# Altium integrated library TI Data Converters Digital to Analog Converter.IntLib: 1533 symbols (part 28 of 99)
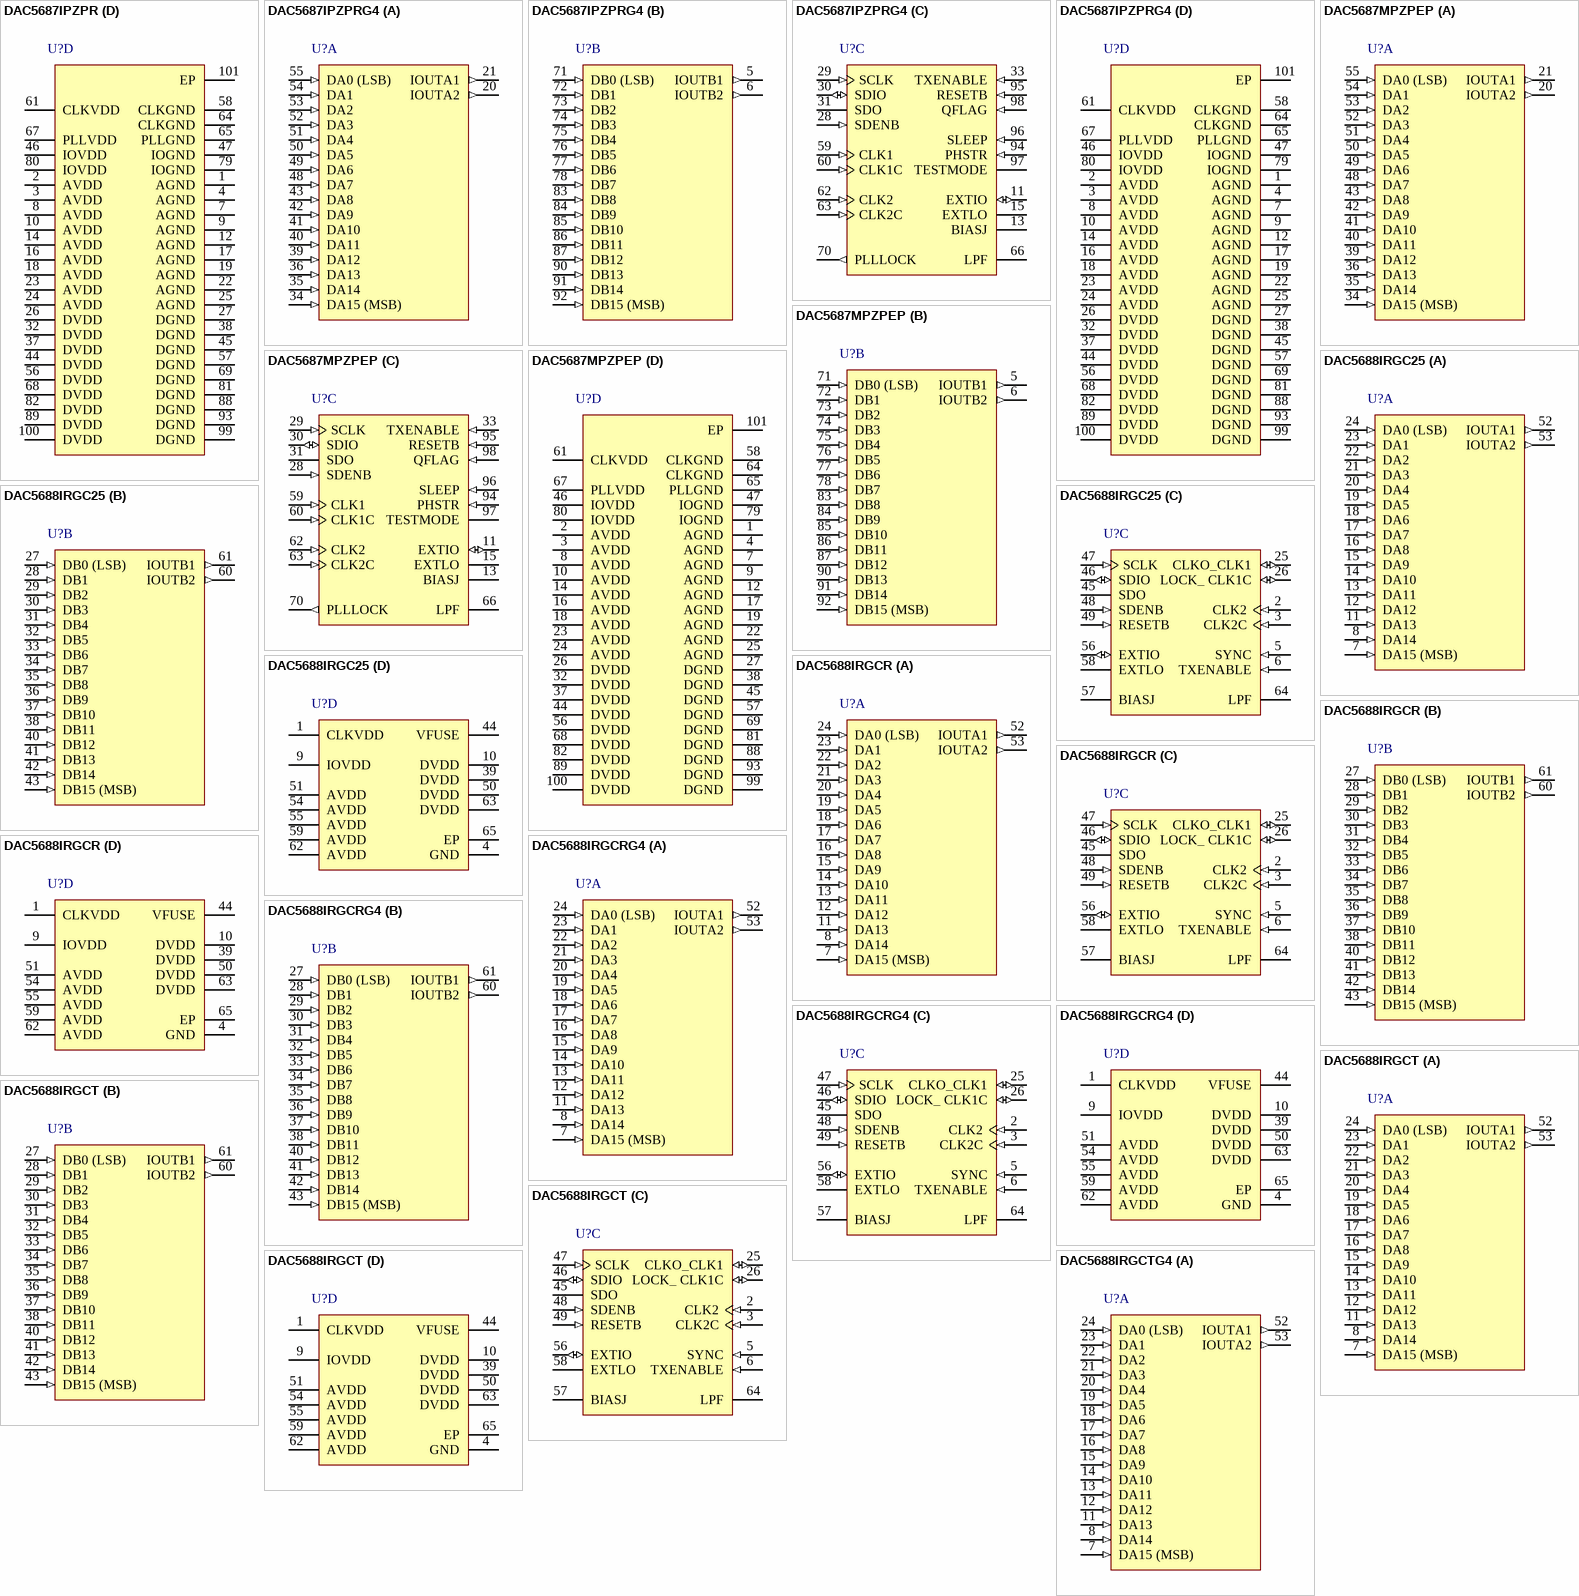
[diagram p100: symbols DAC5687IPZPR to DAC5688IRGCTG4]

## DAC5688IRGC25
designator U?
16-Bit, 800 MSPS 2 x - 8 x Interpolating Dual-Channel DAC with Integrated PLL, -40 to 85 degC, 64-pin QFN (RGC64), Green (RoHS & no Sb/Br); Manufacturer: Texas Instruments; PartNumber: DAC5688IRGC25; DAC Channels: 2; Interface: Parallel CMOS; Power Consumption(Typ)(mW): 1750; Resolution(Bits): 16; Settling Time(us): 0.0104; SFDR(dB): 83; SNR(dB): 72; SubFamily: High Speed DAC (>10MSPS); DatasheetVersion: SLLS880C; PackageVersion: 4204106/F, 11/2011; PackageReference: RGC64-7400X7400TP; PackageDescription: 64-Pin Plastic Quad Flatpack No-Lead, Body 9 x 9 mm, Pitch 0.5 mm; Supplier 1: Digi-Key; Supplier Part Number 1: DAC5688IRGC25-ND; Supplier 2: Newark; Supplier Part Number 2: 63R9879; Supplier 3: Mouser; Supplier Part Number 3: 595-DAC5688IRGC25; Eco-Plan: Green (RoHS & no Sb/Br); Mounting Technology: Surface Mount; ComponentLink1Description: Manufacturer URL; ComponentLink1URL: http://www.ti.com/; ComponentLink2Description: Datasheet; ComponentLink2URL: http://www.ti.com/general/docs/lit/getliterature.tsp?genericPartNumber=DAC5688&fileType=pdf; ComponentLink3Description: Package Specification; ComponentLink3URL: http://www.ti.com/litv/pdf/mpqf125e
footprint TI-RGC64-7400X7400TP_V (QFN, 64-Leads, Body 9x9mm, Pitch 0.5mm, Thermal Pad 7.4x7.4mm, TI Recommended)
part A pins: 7 DA15 (MSB) (in) "A-Channel Data Bits 0 through 15. DA15 is most significant data bit (MSB) - pin 7  DA0 is least significant data bit (LSB) - pin 24 Internal pull-down. The order of bus can be reversed via CONFIG4 reva bit.", 8 DA14 (in) "A-Channel Data Bits 0 through 15. DA15 is most significant data bit (MSB) - pin 7  DA0 is least significant data bit (LSB) - pin 24 Internal pull-down. The order of bus can be reversed via CONFIG4 reva bit.", 11 DA13 (in) "A-Channel Data Bits 0 through 15. DA15 is most significant data bit (MSB) - pin 7  DA0 is least significant data bit (LSB) - pin 24 Internal pull-down. The order of bus can be reversed via CONFIG4 reva bit.", 12 DA12 (in) "A-Channel Data Bits 0 through 15. DA15 is most significant data bit (MSB) - pin 7  DA0 is least significant data bit (LSB) - pin 24 Internal pull-down. The order of bus can be reversed via CONFIG4 reva bit.", 13 DA11 (in) "A-Channel Data Bits 0 through 15. DA15 is most significant data bit (MSB) - pin 7  DA0 is least significant data bit (LSB) - pin 24 Internal pull-down. The order of bus can be reversed via CONFIG4 reva bit.", 14 DA10 (in) "A-Channel Data Bits 0 through 15. DA15 is most significant data bit (MSB) - pin 7  DA0 is least significant data bit (LSB) - pin 24 Internal pull-down. The order of bus can be reversed via CONFIG4 reva bit.", 15 DA9 (in) "A-Channel Data Bits 0 through 15. DA15 is most significant data bit (MSB) - pin 7  DA0 is least significant data bit (LSB) - pin 24 Internal pull-down. The order of bus can be reversed via CONFIG4 reva bit.", 16 DA8 (in) "A-Channel Data Bits 0 through 15. DA15 is most significant data bit (MSB) - pin 7  DA0 is least significant data bit (LSB) - pin 24 Internal pull-down. The order of bus can be reversed via CONFIG4 reva bit.", 17 DA7 (in) "A-Channel Data Bits 0 through 15. DA15 is most significant data bit (MSB) - pin 7  DA0 is least significant data bit (LSB) - pin 24 Internal pull-down. The order of bus can be reversed via CONFIG4 reva bit.", 18 DA6 (in) "A-Channel Data Bits 0 through 15. DA15 is most significant data bit (MSB) - pin 7  DA0 is least significant data bit (LSB) - pin 24 Internal pull-down. The order of bus can be reversed via CONFIG4 reva bit.", 19 DA5 (in) "A-Channel Data Bits 0 through 15. DA15 is most significant data bit (MSB) - pin 7  DA0 is least significant data bit (LSB) - pin 24 Internal pull-down. The order of bus can be reversed via CONFIG4 reva bit.", 20 DA4 (in) "A-Channel Data Bits 0 through 15. DA15 is most significant data bit (MSB) - pin 7  DA0 is least significant data bit (LSB) - pin 24 Internal pull-down. The order of bus can be reversed via CONFIG4 reva bit.", 21 DA3 (in) "A-Channel Data Bits 0 through 15. DA15 is most significant data bit (MSB) - pin 7  DA0 is least significant data bit (LSB) - pin 24 Internal pull-down. The order of bus can be reversed via CONFIG4 reva bit.", 22 DA2 (in) "A-Channel Data Bits 0 through 15. DA15 is most significant data bit (MSB) - pin 7  DA0 is least significant data bit (LSB) - pin 24 Internal pull-down. The order of bus can be reversed via CONFIG4 reva bit.", 23 DA1 (in) "A-Channel Data Bits 0 through 15. DA15 is most significant data bit (MSB) - pin 7  DA0 is least significant data bit (LSB) - pin 24 Internal pull-down. The order of bus can be reversed via CONFIG4 reva bit.", 24 DA0 (LSB) (in) "A-Channel Data Bits 0 through 15. DA15 is most significant data bit (MSB) - pin 7  DA0 is least significant data bit (LSB) - pin 24 Internal pull-down. The order of bus can be reversed via CONFIG4 reva bit.", 52 IOUTA1 (out) "A-Channel DAC current output. An offset binary data pattern of 0x0000 at the DAC input results in a full scale current sink and the least positive voltage on the IOUTA1 pin. Similarly, a 0xFFFF data input results in a 0 mA (See Datasheet)", 53 IOUTA2 (out) "A-Channel DAC complementary current output. The IOUTA2 has the opposite behavior of the IOUTA1 described above. An input data value of 0x0000 results in a 0mA sink and the most positive. voltage on the IOUTA2 pin."
part B pins: 27 DB0 (LSB) (in) "B-Channel Data Bits 0 through 15  DB15 is most significant data bit (MSB) - pin 43 DB0 is least significant data bit (LSB) - pin 27 Internal pull-down. The order of bus can be reversed via CONFIG4 revb bit.", 28 DB1 (in) "B-Channel Data Bits 0 through 15  DB15 is most significant data bit (MSB) - pin 43 DB0 is least significant data bit (LSB) - pin 27 Internal pull-down. The order of bus can be reversed via CONFIG4 revb bit.", 29 DB2 (in) "B-Channel Data Bits 0 through 15  DB15 is most significant data bit (MSB) - pin 43 DB0 is least significant data bit (LSB) - pin 27 Internal pull-down. The order of bus can be reversed via CONFIG4 revb bit.", 30 DB3 (in) "B-Channel Data Bits 0 through 15  DB15 is most significant data bit (MSB) - pin 43 DB0 is least significant data bit (LSB) - pin 27 Internal pull-down. The order of bus can be reversed via CONFIG4 revb bit.", 31 DB4 (in) "B-Channel Data Bits 0 through 15  DB15 is most significant data bit (MSB) - pin 43 DB0 is least significant data bit (LSB) - pin 27 Internal pull-down. The order of bus can be reversed via CONFIG4 revb bit.", 32 DB5 (in) "B-Channel Data Bits 0 through 15  DB15 is most significant data bit (MSB) - pin 43 DB0 is least significant data bit (LSB) - pin 27 Internal pull-down. The order of bus can be reversed via CONFIG4 revb bit.", 33 DB6 (in) "B-Channel Data Bits 0 through 15  DB15 is most significant data bit (MSB) - pin 43 DB0 is least significant data bit (LSB) - pin 27 Internal pull-down. The order of bus can be reversed via CONFIG4 revb bit.", 34 DB7 (in) "B-Channel Data Bits 0 through 15  DB15 is most significant data bit (MSB) - pin 43 DB0 is least significant data bit (LSB) - pin 27 Internal pull-down. The order of bus can be reversed via CONFIG4 revb bit.", 35 DB8 (in) "B-Channel Data Bits 0 through 15  DB15 is most significant data bit (MSB) - pin 43 DB0 is least significant data bit (LSB) - pin 27 Internal pull-down. The order of bus can be reversed via CONFIG4 revb bit.", 36 DB9 (in) "B-Channel Data Bits 0 through 15  DB15 is most significant data bit (MSB) - pin 43 DB0 is least significant data bit (LSB) - pin 27 Internal pull-down. The order of bus can be reversed via CONFIG4 revb bit.", 37 DB10 (in) "B-Channel Data Bits 0 through 15  DB15 is most significant data bit (MSB) - pin 43 DB0 is least significant data bit (LSB) - pin 27 Internal pull-down. The order of bus can be reversed via CONFIG4 revb bit.", 38 DB11 (in) "B-Channel Data Bits 0 through 15  DB15 is most significant data bit (MSB) - pin 43 DB0 is least significant data bit (LSB) - pin 27 Internal pull-down. The order of bus can be reversed via CONFIG4 revb bit.", 40 DB12 (in) "B-Channel Data Bits 0 through 15  DB15 is most significant data bit (MSB) - pin 43 DB0 is least significant data bit (LSB) - pin 27 Internal pull-down. The order of bus can be reversed via CONFIG4 revb bit.", 41 DB13 (in) "B-Channel Data Bits 0 through 15  DB15 is most significant data bit (MSB) - pin 43 DB0 is least significant data bit (LSB) - pin 27 Internal pull-down. The order of bus can be reversed via CONFIG4 revb bit.", 42 DB14 (in) "B-Channel Data Bits 0 through 15  DB15 is most significant data bit (MSB) - pin 43 DB0 is least significant data bit (LSB) - pin 27 Internal pull-down. The order of bus can be reversed via CONFIG4 revb bit.", 43 DB15 (MSB) (in) "B-Channel Data Bits 0 through 15  DB15 is most significant data bit (MSB) - pin 43 DB0 is least significant data bit (LSB) - pin 27 Internal pull-down. The order of bus can be reversed via CONFIG4 revb bit.", 60 IOUTB2 (out) "B-Channel DAC complementary current output. Refer to IOUTA2 description above.", 61 IOUTB1 (out) "B-Channel DAC current output. Refer to IOUTA1 description above."
part C pins: 2 CLK2 (in) "With the clock multiplier PLL enabled, CLK2 provides lower frequency reference clock. If the PLL is disabled, CLK2 directly provides clock for DAC up to 800 MHz.", 3 CLK2C (in) "Complementary CLK2 input.", 5 SYNC (in) "Optional SYNC input for internal clock dividers, FIFO, NCO and QMC blocks. Internal pull-down.", 6 TXENABLE (in) "Transmit enable input. Internal pull-down. TXENABLE has two purposes. In all modes, TXENABLE must be high for the DATA to the DAC to be enabled. When TXENABLE is low, the digital logic section is forced to all 0, and any (See Datasheet)", 25 CLKO_CLK1 (io) "In Dual Clock Modes, provides lower frequency input clock (CLK1). Optionally provides clock (CLKO) output for data bus. Internal pull-down.", 26 LOCK_ CLK1C (io) "Complementary CLK1 signal if configured as a differential input. In PLL mode, optionally outputs PLL lock status. Internal pull-down.", 45 SDO (hiz) "Uni-directional serial interface data in 4-pin mode (CONFIG5 sif4). The SDO pin is 3-stated in 3-pin interface mode (default). Internal pull-down.", 46 SDIO (io) "Bi-directional serial data in 3-pin mode (default). In 4-pin interface mode (CONFIG5 sif4), the SDIO pin is an input only. Internal pull-down.", 47 SCLK (in) "Serial interface clock. Internal pull-down.", 48 SDENB (in) "Active low serial data enable, always an input to the DAC5688. Internal pull-up.", 49 RESETB (in) "Resets the chip when low. Internal pull-up.", 56 EXTIO (io) "Used as external reference input when internal reference is disabled (i.e., EXTLO connected to AVDD). Used as internal reference output when EXTLO = GND, requires a 0.1uF decoupling capacitor to GND when used as reference (See Datasheet)", 57 BIASJ "Full-scale output current bias. For 20mA full-scale output current, connect a 960 ohm resistor to GND.", 58 EXTLO "Connect to GND for internal reference, or AVDD for external reference.", 64 LPF "PLL loop filter connection. If not using the clock multiplying PLL, leave the LPF pin open. Set PLL_sleep and clear PLL_ena control bits for reduced power dissipation."
part D pins: 1 CLKVDD (power) "Internal clock buffer supply voltage. (1.8V) It is recommended to isolate this supply from DVDD.", 4 GND (power) "Pin 4 and the Thermal Pad located on the bottom of the QFN package is ground for AVDD, DVDD and IOVDD supplies.", 9 IOVDD (power) "3.3V supply voltage for all digital I/O. Note: This supply input should remain at 3.3V regardless of the 1.8V or 3.3V selectable digital input switching thresholds via CONFIG26 io_1p8_3p3.", 10 DVDD (power) "Digital supply voltage. (1.8V) For best performance it is recommended to isolate pins 10 and 39 from all other 1.8V supplies.", 39 DVDD (power) "Digital supply voltage. (1.8V) For best performance it is recommended to isolate pins 10 and 39 from all other 1.8V supplies.", 44 VFUSE (power) "Digital supply voltage. (1.8V) This supply pin is also used for factory fuse programming. Connect to DVDD pins for normal operation.", 50 DVDD (power) "Digital supply voltage. (1.8V) For best performance it is recommended to isolate pins 10 and 39 from all other 1.8V supplies.", 51 AVDD (power) "Analog supply voltage. (3.3V)", 54 AVDD (power) "Analog supply voltage. (3.3V)", 55 AVDD (power) "Analog supply voltage. (3.3V)", 59 AVDD (power) "Analog supply voltage. (3.3V)", 62 AVDD (power) "Analog supply voltage. (3.3V)", 63 DVDD (power) "Digital supply voltage. (1.8V) For best performance it is recommended to isolate pins 10 and 39 from all other 1.8V supplies.", 65 EP (power) "Pin 4 and the Thermal Pad located on the bottom of the QFN package is ground for AVDD, DVDD and IOVDD supplies."

## DAC5688IRGCR
designator U?
16-Bit, 800 MSPS 2 x - 8 x Interpolating Dual-Channel DAC with Integrated PLL, -40 to 85 degC, 64-pin QFN (RGC64), Green (RoHS & no Sb/Br); Manufacturer: Texas Instruments; PartNumber: DAC5688IRGCR; DAC Channels: 2; Interface: Parallel CMOS; Power Consumption(Typ)(mW): 1750; Resolution(Bits): 16; Settling Time(us): 0.0104; SFDR(dB): 83; SNR(dB): 72; SubFamily: High Speed DAC (>10MSPS); DatasheetVersion: SLLS880C; PackageVersion: 4204106/F, 11/2011; PackageReference: RGC64-7400X7400TP; PackageDescription: 64-Pin Plastic Quad Flatpack No-Lead, Body 9 x 9 mm, Pitch 0.5 mm; Supplier 1: Digi-Key; Supplier Part Number 1: DAC5688IRGCR-ND; Supplier 2: Mouser; Supplier Part Number 2: 595-DAC5688IRGCR; Eco-Plan: Green (RoHS & no Sb/Br); Mounting Technology: Surface Mount; ComponentLink1Description: Manufacturer URL; ComponentLink1URL: http://www.ti.com/; ComponentLink2Description: Datasheet; ComponentLink2URL: http://www.ti.com/general/docs/lit/getliterature.tsp?genericPartNumber=DAC5688&fileType=pdf; ComponentLink3Description: Package Specification; ComponentLink3URL: http://www.ti.com/litv/pdf/mpqf125e
footprint TI-RGC64-7400X7400TP_V (QFN, 64-Leads, Body 9x9mm, Pitch 0.5mm, Thermal Pad 7.4x7.4mm, TI Recommended)
part A pins: 7 DA15 (MSB) (in) "A-Channel Data Bits 0 through 15. DA15 is most significant data bit (MSB) - pin 7  DA0 is least significant data bit (LSB) - pin 24 Internal pull-down. The order of bus can be reversed via CONFIG4 reva bit.", 8 DA14 (in) "A-Channel Data Bits 0 through 15. DA15 is most significant data bit (MSB) - pin 7  DA0 is least significant data bit (LSB) - pin 24 Internal pull-down. The order of bus can be reversed via CONFIG4 reva bit.", 11 DA13 (in) "A-Channel Data Bits 0 through 15. DA15 is most significant data bit (MSB) - pin 7  DA0 is least significant data bit (LSB) - pin 24 Internal pull-down. The order of bus can be reversed via CONFIG4 reva bit.", 12 DA12 (in) "A-Channel Data Bits 0 through 15. DA15 is most significant data bit (MSB) - pin 7  DA0 is least significant data bit (LSB) - pin 24 Internal pull-down. The order of bus can be reversed via CONFIG4 reva bit.", 13 DA11 (in) "A-Channel Data Bits 0 through 15. DA15 is most significant data bit (MSB) - pin 7  DA0 is least significant data bit (LSB) - pin 24 Internal pull-down. The order of bus can be reversed via CONFIG4 reva bit.", 14 DA10 (in) "A-Channel Data Bits 0 through 15. DA15 is most significant data bit (MSB) - pin 7  DA0 is least significant data bit (LSB) - pin 24 Internal pull-down. The order of bus can be reversed via CONFIG4 reva bit.", 15 DA9 (in) "A-Channel Data Bits 0 through 15. DA15 is most significant data bit (MSB) - pin 7  DA0 is least significant data bit (LSB) - pin 24 Internal pull-down. The order of bus can be reversed via CONFIG4 reva bit.", 16 DA8 (in) "A-Channel Data Bits 0 through 15. DA15 is most significant data bit (MSB) - pin 7  DA0 is least significant data bit (LSB) - pin 24 Internal pull-down. The order of bus can be reversed via CONFIG4 reva bit.", 17 DA7 (in) "A-Channel Data Bits 0 through 15. DA15 is most significant data bit (MSB) - pin 7  DA0 is least significant data bit (LSB) - pin 24 Internal pull-down. The order of bus can be reversed via CONFIG4 reva bit.", 18 DA6 (in) "A-Channel Data Bits 0 through 15. DA15 is most significant data bit (MSB) - pin 7  DA0 is least significant data bit (LSB) - pin 24 Internal pull-down. The order of bus can be reversed via CONFIG4 reva bit.", 19 DA5 (in) "A-Channel Data Bits 0 through 15. DA15 is most significant data bit (MSB) - pin 7  DA0 is least significant data bit (LSB) - pin 24 Internal pull-down. The order of bus can be reversed via CONFIG4 reva bit.", 20 DA4 (in) "A-Channel Data Bits 0 through 15. DA15 is most significant data bit (MSB) - pin 7  DA0 is least significant data bit (LSB) - pin 24 Internal pull-down. The order of bus can be reversed via CONFIG4 reva bit.", 21 DA3 (in) "A-Channel Data Bits 0 through 15. DA15 is most significant data bit (MSB) - pin 7  DA0 is least significant data bit (LSB) - pin 24 Internal pull-down. The order of bus can be reversed via CONFIG4 reva bit.", 22 DA2 (in) "A-Channel Data Bits 0 through 15. DA15 is most significant data bit (MSB) - pin 7  DA0 is least significant data bit (LSB) - pin 24 Internal pull-down. The order of bus can be reversed via CONFIG4 reva bit.", 23 DA1 (in) "A-Channel Data Bits 0 through 15. DA15 is most significant data bit (MSB) - pin 7  DA0 is least significant data bit (LSB) - pin 24 Internal pull-down. The order of bus can be reversed via CONFIG4 reva bit.", 24 DA0 (LSB) (in) "A-Channel Data Bits 0 through 15. DA15 is most significant data bit (MSB) - pin 7  DA0 is least significant data bit (LSB) - pin 24 Internal pull-down. The order of bus can be reversed via CONFIG4 reva bit.", 52 IOUTA1 (out) "A-Channel DAC current output. An offset binary data pattern of 0x0000 at the DAC input results in a full scale current sink and the least positive voltage on the IOUTA1 pin. Similarly, a 0xFFFF data input results in a 0 mA (See Datasheet)", 53 IOUTA2 (out) "A-Channel DAC complementary current output. The IOUTA2 has the opposite behavior of the IOUTA1 described above. An input data value of 0x0000 results in a 0mA sink and the most positive. voltage on the IOUTA2 pin."
part B pins: 27 DB0 (LSB) (in) "B-Channel Data Bits 0 through 15  DB15 is most significant data bit (MSB) - pin 43 DB0 is least significant data bit (LSB) - pin 27 Internal pull-down. The order of bus can be reversed via CONFIG4 revb bit.", 28 DB1 (in) "B-Channel Data Bits 0 through 15  DB15 is most significant data bit (MSB) - pin 43 DB0 is least significant data bit (LSB) - pin 27 Internal pull-down. The order of bus can be reversed via CONFIG4 revb bit.", 29 DB2 (in) "B-Channel Data Bits 0 through 15  DB15 is most significant data bit (MSB) - pin 43 DB0 is least significant data bit (LSB) - pin 27 Internal pull-down. The order of bus can be reversed via CONFIG4 revb bit.", 30 DB3 (in) "B-Channel Data Bits 0 through 15  DB15 is most significant data bit (MSB) - pin 43 DB0 is least significant data bit (LSB) - pin 27 Internal pull-down. The order of bus can be reversed via CONFIG4 revb bit.", 31 DB4 (in) "B-Channel Data Bits 0 through 15  DB15 is most significant data bit (MSB) - pin 43 DB0 is least significant data bit (LSB) - pin 27 Internal pull-down. The order of bus can be reversed via CONFIG4 revb bit.", 32 DB5 (in) "B-Channel Data Bits 0 through 15  DB15 is most significant data bit (MSB) - pin 43 DB0 is least significant data bit (LSB) - pin 27 Internal pull-down. The order of bus can be reversed via CONFIG4 revb bit.", 33 DB6 (in) "B-Channel Data Bits 0 through 15  DB15 is most significant data bit (MSB) - pin 43 DB0 is least significant data bit (LSB) - pin 27 Internal pull-down. The order of bus can be reversed via CONFIG4 revb bit.", 34 DB7 (in) "B-Channel Data Bits 0 through 15  DB15 is most significant data bit (MSB) - pin 43 DB0 is least significant data bit (LSB) - pin 27 Internal pull-down. The order of bus can be reversed via CONFIG4 revb bit.", 35 DB8 (in) "B-Channel Data Bits 0 through 15  DB15 is most significant data bit (MSB) - pin 43 DB0 is least significant data bit (LSB) - pin 27 Internal pull-down. The order of bus can be reversed via CONFIG4 revb bit.", 36 DB9 (in) "B-Channel Data Bits 0 through 15  DB15 is most significant data bit (MSB) - pin 43 DB0 is least significant data bit (LSB) - pin 27 Internal pull-down. The order of bus can be reversed via CONFIG4 revb bit.", 37 DB10 (in) "B-Channel Data Bits 0 through 15  DB15 is most significant data bit (MSB) - pin 43 DB0 is least significant data bit (LSB) - pin 27 Internal pull-down. The order of bus can be reversed via CONFIG4 revb bit.", 38 DB11 (in) "B-Channel Data Bits 0 through 15  DB15 is most significant data bit (MSB) - pin 43 DB0 is least significant data bit (LSB) - pin 27 Internal pull-down. The order of bus can be reversed via CONFIG4 revb bit.", 40 DB12 (in) "B-Channel Data Bits 0 through 15  DB15 is most significant data bit (MSB) - pin 43 DB0 is least significant data bit (LSB) - pin 27 Internal pull-down. The order of bus can be reversed via CONFIG4 revb bit.", 41 DB13 (in) "B-Channel Data Bits 0 through 15  DB15 is most significant data bit (MSB) - pin 43 DB0 is least significant data bit (LSB) - pin 27 Internal pull-down. The order of bus can be reversed via CONFIG4 revb bit.", 42 DB14 (in) "B-Channel Data Bits 0 through 15  DB15 is most significant data bit (MSB) - pin 43 DB0 is least significant data bit (LSB) - pin 27 Internal pull-down. The order of bus can be reversed via CONFIG4 revb bit.", 43 DB15 (MSB) (in) "B-Channel Data Bits 0 through 15  DB15 is most significant data bit (MSB) - pin 43 DB0 is least significant data bit (LSB) - pin 27 Internal pull-down. The order of bus can be reversed via CONFIG4 revb bit.", 60 IOUTB2 (out) "B-Channel DAC complementary current output. Refer to IOUTA2 description above.", 61 IOUTB1 (out) "B-Channel DAC current output. Refer to IOUTA1 description above."
part C pins: 2 CLK2 (in) "With the clock multiplier PLL enabled, CLK2 provides lower frequency reference clock. If the PLL is disabled, CLK2 directly provides clock for DAC up to 800 MHz.", 3 CLK2C (in) "Complementary CLK2 input.", 5 SYNC (in) "Optional SYNC input for internal clock dividers, FIFO, NCO and QMC blocks. Internal pull-down.", 6 TXENABLE (in) "Transmit enable input. Internal pull-down. TXENABLE has two purposes. In all modes, TXENABLE must be high for the DATA to the DAC to be enabled. When TXENABLE is low, the digital logic section is forced to all 0, and any (See Datasheet)", 25 CLKO_CLK1 (io) "In Dual Clock Modes, provides lower frequency input clock (CLK1). Optionally provides clock (CLKO) output for data bus. Internal pull-down.", 26 LOCK_ CLK1C (io) "Complementary CLK1 signal if configured as a differential input. In PLL mode, optionally outputs PLL lock status. Internal pull-down.", 45 SDO (hiz) "Uni-directional serial interface data in 4-pin mode (CONFIG5 sif4). The SDO pin is 3-stated in 3-pin interface mode (default). Internal pull-down.", 46 SDIO (io) "Bi-directional serial data in 3-pin mode (default). In 4-pin interface mode (CONFIG5 sif4), the SDIO pin is an input only. Internal pull-down.", 47 SCLK (in) "Serial interface clock. Internal pull-down.", 48 SDENB (in) "Active low serial data enable, always an input to the DAC5688. Internal pull-up.", 49 RESETB (in) "Resets the chip when low. Internal pull-up.", 56 EXTIO (io) "Used as external reference input when internal reference is disabled (i.e., EXTLO connected to AVDD). Used as internal reference output when EXTLO = GND, requires a 0.1uF decoupling capacitor to GND when used as reference (See Datasheet)", 57 BIASJ "Full-scale output current bias. For 20mA full-scale output current, connect a 960 ohm resistor to GND.", 58 EXTLO "Connect to GND for internal reference, or AVDD for external reference.", 64 LPF "PLL loop filter connection. If not using the clock multiplying PLL, leave the LPF pin open. Set PLL_sleep and clear PLL_ena control bits for reduced power dissipation."
part D pins: 1 CLKVDD (power) "Internal clock buffer supply voltage. (1.8V) It is recommended to isolate this supply from DVDD.", 4 GND (power) "Pin 4 and the Thermal Pad located on the bottom of the QFN package is ground for AVDD, DVDD and IOVDD supplies.", 9 IOVDD (power) "3.3V supply voltage for all digital I/O. Note: This supply input should remain at 3.3V regardless of the 1.8V or 3.3V selectable digital input switching thresholds via CONFIG26 io_1p8_3p3.", 10 DVDD (power) "Digital supply voltage. (1.8V) For best performance it is recommended to isolate pins 10 and 39 from all other 1.8V supplies.", 39 DVDD (power) "Digital supply voltage. (1.8V) For best performance it is recommended to isolate pins 10 and 39 from all other 1.8V supplies.", 44 VFUSE (power) "Digital supply voltage. (1.8V) This supply pin is also used for factory fuse programming. Connect to DVDD pins for normal operation.", 50 DVDD (power) "Digital supply voltage. (1.8V) For best performance it is recommended to isolate pins 10 and 39 from all other 1.8V supplies.", 51 AVDD (power) "Analog supply voltage. (3.3V)", 54 AVDD (power) "Analog supply voltage. (3.3V)", 55 AVDD (power) "Analog supply voltage. (3.3V)", 59 AVDD (power) "Analog supply voltage. (3.3V)", 62 AVDD (power) "Analog supply voltage. (3.3V)", 63 DVDD (power) "Digital supply voltage. (1.8V) For best performance it is recommended to isolate pins 10 and 39 from all other 1.8V supplies.", 65 EP (power) "Pin 4 and the Thermal Pad located on the bottom of the QFN package is ground for AVDD, DVDD and IOVDD supplies."

## DAC5688IRGCRG4
designator U?
16-Bit, 800 MSPS 2 x - 8 x Interpolating Dual-Channel DAC with Integrated PLL, -40 to 85 degC, 64-pin QFN (RGC64), Green (RoHS & no Sb/Br); Manufacturer: Texas Instruments; PartNumber: DAC5688IRGCRG4; DAC Channels: 2; Interface: Parallel CMOS; Power Consumption(Typ)(mW): 1750; Resolution(Bits): 16; Settling Time(us): 0.0104; SFDR(dB): 83; SNR(dB): 72; SubFamily: High Speed DAC (>10MSPS); DatasheetVersion: SLLS880C; PackageVersion: 4204106/F, 11/2011; PackageReference: RGC64-7400X7400TP; PackageDescription: 64-Pin Plastic Quad Flatpack No-Lead, Body 9 x 9 mm, Pitch 0.5 mm; Supplier 1: Digi-Key; Supplier Part Number 1: DAC5688IRGCRG4-ND; Supplier 2: Mouser; Supplier Part Number 2: 595-DAC5688IRGCRG4; Eco-Plan: Green (RoHS & no Sb/Br); Mounting Technology: Surface Mount; ComponentLink1Description: Manufacturer URL; ComponentLink1URL: http://www.ti.com/; ComponentLink2Description: Datasheet; ComponentLink2URL: http://www.ti.com/general/docs/lit/getliterature.tsp?genericPartNumber=DAC5688&fileType=pdf; ComponentLink3Description: Package Specification; ComponentLink3URL: http://www.ti.com/litv/pdf/mpqf125e
footprint TI-RGC64-7400X7400TP_V (QFN, 64-Leads, Body 9x9mm, Pitch 0.5mm, Thermal Pad 7.4x7.4mm, TI Recommended)
part A pins: 7 DA15 (MSB) (in) "A-Channel Data Bits 0 through 15. DA15 is most significant data bit (MSB) - pin 7  DA0 is least significant data bit (LSB) - pin 24 Internal pull-down. The order of bus can be reversed via CONFIG4 reva bit.", 8 DA14 (in) "A-Channel Data Bits 0 through 15. DA15 is most significant data bit (MSB) - pin 7  DA0 is least significant data bit (LSB) - pin 24 Internal pull-down. The order of bus can be reversed via CONFIG4 reva bit.", 11 DA13 (in) "A-Channel Data Bits 0 through 15. DA15 is most significant data bit (MSB) - pin 7  DA0 is least significant data bit (LSB) - pin 24 Internal pull-down. The order of bus can be reversed via CONFIG4 reva bit.", 12 DA12 (in) "A-Channel Data Bits 0 through 15. DA15 is most significant data bit (MSB) - pin 7  DA0 is least significant data bit (LSB) - pin 24 Internal pull-down. The order of bus can be reversed via CONFIG4 reva bit.", 13 DA11 (in) "A-Channel Data Bits 0 through 15. DA15 is most significant data bit (MSB) - pin 7  DA0 is least significant data bit (LSB) - pin 24 Internal pull-down. The order of bus can be reversed via CONFIG4 reva bit.", 14 DA10 (in) "A-Channel Data Bits 0 through 15. DA15 is most significant data bit (MSB) - pin 7  DA0 is least significant data bit (LSB) - pin 24 Internal pull-down. The order of bus can be reversed via CONFIG4 reva bit.", 15 DA9 (in) "A-Channel Data Bits 0 through 15. DA15 is most significant data bit (MSB) - pin 7  DA0 is least significant data bit (LSB) - pin 24 Internal pull-down. The order of bus can be reversed via CONFIG4 reva bit.", 16 DA8 (in) "A-Channel Data Bits 0 through 15. DA15 is most significant data bit (MSB) - pin 7  DA0 is least significant data bit (LSB) - pin 24 Internal pull-down. The order of bus can be reversed via CONFIG4 reva bit.", 17 DA7 (in) "A-Channel Data Bits 0 through 15. DA15 is most significant data bit (MSB) - pin 7  DA0 is least significant data bit (LSB) - pin 24 Internal pull-down. The order of bus can be reversed via CONFIG4 reva bit.", 18 DA6 (in) "A-Channel Data Bits 0 through 15. DA15 is most significant data bit (MSB) - pin 7  DA0 is least significant data bit (LSB) - pin 24 Internal pull-down. The order of bus can be reversed via CONFIG4 reva bit.", 19 DA5 (in) "A-Channel Data Bits 0 through 15. DA15 is most significant data bit (MSB) - pin 7  DA0 is least significant data bit (LSB) - pin 24 Internal pull-down. The order of bus can be reversed via CONFIG4 reva bit.", 20 DA4 (in) "A-Channel Data Bits 0 through 15. DA15 is most significant data bit (MSB) - pin 7  DA0 is least significant data bit (LSB) - pin 24 Internal pull-down. The order of bus can be reversed via CONFIG4 reva bit.", 21 DA3 (in) "A-Channel Data Bits 0 through 15. DA15 is most significant data bit (MSB) - pin 7  DA0 is least significant data bit (LSB) - pin 24 Internal pull-down. The order of bus can be reversed via CONFIG4 reva bit.", 22 DA2 (in) "A-Channel Data Bits 0 through 15. DA15 is most significant data bit (MSB) - pin 7  DA0 is least significant data bit (LSB) - pin 24 Internal pull-down. The order of bus can be reversed via CONFIG4 reva bit.", 23 DA1 (in) "A-Channel Data Bits 0 through 15. DA15 is most significant data bit (MSB) - pin 7  DA0 is least significant data bit (LSB) - pin 24 Internal pull-down. The order of bus can be reversed via CONFIG4 reva bit.", 24 DA0 (LSB) (in) "A-Channel Data Bits 0 through 15. DA15 is most significant data bit (MSB) - pin 7  DA0 is least significant data bit (LSB) - pin 24 Internal pull-down. The order of bus can be reversed via CONFIG4 reva bit.", 52 IOUTA1 (out) "A-Channel DAC current output. An offset binary data pattern of 0x0000 at the DAC input results in a full scale current sink and the least positive voltage on the IOUTA1 pin. Similarly, a 0xFFFF data input results in a 0 mA (See Datasheet)", 53 IOUTA2 (out) "A-Channel DAC complementary current output. The IOUTA2 has the opposite behavior of the IOUTA1 described above. An input data value of 0x0000 results in a 0mA sink and the most positive. voltage on the IOUTA2 pin."
part B pins: 27 DB0 (LSB) (in) "B-Channel Data Bits 0 through 15  DB15 is most significant data bit (MSB) - pin 43 DB0 is least significant data bit (LSB) - pin 27 Internal pull-down. The order of bus can be reversed via CONFIG4 revb bit.", 28 DB1 (in) "B-Channel Data Bits 0 through 15  DB15 is most significant data bit (MSB) - pin 43 DB0 is least significant data bit (LSB) - pin 27 Internal pull-down. The order of bus can be reversed via CONFIG4 revb bit.", 29 DB2 (in) "B-Channel Data Bits 0 through 15  DB15 is most significant data bit (MSB) - pin 43 DB0 is least significant data bit (LSB) - pin 27 Internal pull-down. The order of bus can be reversed via CONFIG4 revb bit.", 30 DB3 (in) "B-Channel Data Bits 0 through 15  DB15 is most significant data bit (MSB) - pin 43 DB0 is least significant data bit (LSB) - pin 27 Internal pull-down. The order of bus can be reversed via CONFIG4 revb bit.", 31 DB4 (in) "B-Channel Data Bits 0 through 15  DB15 is most significant data bit (MSB) - pin 43 DB0 is least significant data bit (LSB) - pin 27 Internal pull-down. The order of bus can be reversed via CONFIG4 revb bit.", 32 DB5 (in) "B-Channel Data Bits 0 through 15  DB15 is most significant data bit (MSB) - pin 43 DB0 is least significant data bit (LSB) - pin 27 Internal pull-down. The order of bus can be reversed via CONFIG4 revb bit.", 33 DB6 (in) "B-Channel Data Bits 0 through 15  DB15 is most significant data bit (MSB) - pin 43 DB0 is least significant data bit (LSB) - pin 27 Internal pull-down. The order of bus can be reversed via CONFIG4 revb bit.", 34 DB7 (in) "B-Channel Data Bits 0 through 15  DB15 is most significant data bit (MSB) - pin 43 DB0 is least significant data bit (LSB) - pin 27 Internal pull-down. The order of bus can be reversed via CONFIG4 revb bit.", 35 DB8 (in) "B-Channel Data Bits 0 through 15  DB15 is most significant data bit (MSB) - pin 43 DB0 is least significant data bit (LSB) - pin 27 Internal pull-down. The order of bus can be reversed via CONFIG4 revb bit.", 36 DB9 (in) "B-Channel Data Bits 0 through 15  DB15 is most significant data bit (MSB) - pin 43 DB0 is least significant data bit (LSB) - pin 27 Internal pull-down. The order of bus can be reversed via CONFIG4 revb bit.", 37 DB10 (in) "B-Channel Data Bits 0 through 15  DB15 is most significant data bit (MSB) - pin 43 DB0 is least significant data bit (LSB) - pin 27 Internal pull-down. The order of bus can be reversed via CONFIG4 revb bit.", 38 DB11 (in) "B-Channel Data Bits 0 through 15  DB15 is most significant data bit (MSB) - pin 43 DB0 is least significant data bit (LSB) - pin 27 Internal pull-down. The order of bus can be reversed via CONFIG4 revb bit.", 40 DB12 (in) "B-Channel Data Bits 0 through 15  DB15 is most significant data bit (MSB) - pin 43 DB0 is least significant data bit (LSB) - pin 27 Internal pull-down. The order of bus can be reversed via CONFIG4 revb bit.", 41 DB13 (in) "B-Channel Data Bits 0 through 15  DB15 is most significant data bit (MSB) - pin 43 DB0 is least significant data bit (LSB) - pin 27 Internal pull-down. The order of bus can be reversed via CONFIG4 revb bit.", 42 DB14 (in) "B-Channel Data Bits 0 through 15  DB15 is most significant data bit (MSB) - pin 43 DB0 is least significant data bit (LSB) - pin 27 Internal pull-down. The order of bus can be reversed via CONFIG4 revb bit.", 43 DB15 (MSB) (in) "B-Channel Data Bits 0 through 15  DB15 is most significant data bit (MSB) - pin 43 DB0 is least significant data bit (LSB) - pin 27 Internal pull-down. The order of bus can be reversed via CONFIG4 revb bit.", 60 IOUTB2 (out) "B-Channel DAC complementary current output. Refer to IOUTA2 description above.", 61 IOUTB1 (out) "B-Channel DAC current output. Refer to IOUTA1 description above."
part C pins: 2 CLK2 (in) "With the clock multiplier PLL enabled, CLK2 provides lower frequency reference clock. If the PLL is disabled, CLK2 directly provides clock for DAC up to 800 MHz.", 3 CLK2C (in) "Complementary CLK2 input.", 5 SYNC (in) "Optional SYNC input for internal clock dividers, FIFO, NCO and QMC blocks. Internal pull-down.", 6 TXENABLE (in) "Transmit enable input. Internal pull-down. TXENABLE has two purposes. In all modes, TXENABLE must be high for the DATA to the DAC to be enabled. When TXENABLE is low, the digital logic section is forced to all 0, and any (See Datasheet)", 25 CLKO_CLK1 (io) "In Dual Clock Modes, provides lower frequency input clock (CLK1). Optionally provides clock (CLKO) output for data bus. Internal pull-down.", 26 LOCK_ CLK1C (io) "Complementary CLK1 signal if configured as a differential input. In PLL mode, optionally outputs PLL lock status. Internal pull-down.", 45 SDO (hiz) "Uni-directional serial interface data in 4-pin mode (CONFIG5 sif4). The SDO pin is 3-stated in 3-pin interface mode (default). Internal pull-down.", 46 SDIO (io) "Bi-directional serial data in 3-pin mode (default). In 4-pin interface mode (CONFIG5 sif4), the SDIO pin is an input only. Internal pull-down.", 47 SCLK (in) "Serial interface clock. Internal pull-down.", 48 SDENB (in) "Active low serial data enable, always an input to the DAC5688. Internal pull-up.", 49 RESETB (in) "Resets the chip when low. Internal pull-up.", 56 EXTIO (io) "Used as external reference input when internal reference is disabled (i.e., EXTLO connected to AVDD). Used as internal reference output when EXTLO = GND, requires a 0.1uF decoupling capacitor to GND when used as reference (See Datasheet)", 57 BIASJ "Full-scale output current bias. For 20mA full-scale output current, connect a 960 ohm resistor to GND.", 58 EXTLO "Connect to GND for internal reference, or AVDD for external reference.", 64 LPF "PLL loop filter connection. If not using the clock multiplying PLL, leave the LPF pin open. Set PLL_sleep and clear PLL_ena control bits for reduced power dissipation."
part D pins: 1 CLKVDD (power) "Internal clock buffer supply voltage. (1.8V) It is recommended to isolate this supply from DVDD.", 4 GND (power) "Pin 4 and the Thermal Pad located on the bottom of the QFN package is ground for AVDD, DVDD and IOVDD supplies.", 9 IOVDD (power) "3.3V supply voltage for all digital I/O. Note: This supply input should remain at 3.3V regardless of the 1.8V or 3.3V selectable digital input switching thresholds via CONFIG26 io_1p8_3p3.", 10 DVDD (power) "Digital supply voltage. (1.8V) For best performance it is recommended to isolate pins 10 and 39 from all other 1.8V supplies.", 39 DVDD (power) "Digital supply voltage. (1.8V) For best performance it is recommended to isolate pins 10 and 39 from all other 1.8V supplies.", 44 VFUSE (power) "Digital supply voltage. (1.8V) This supply pin is also used for factory fuse programming. Connect to DVDD pins for normal operation.", 50 DVDD (power) "Digital supply voltage. (1.8V) For best performance it is recommended to isolate pins 10 and 39 from all other 1.8V supplies.", 51 AVDD (power) "Analog supply voltage. (3.3V)", 54 AVDD (power) "Analog supply voltage. (3.3V)", 55 AVDD (power) "Analog supply voltage. (3.3V)", 59 AVDD (power) "Analog supply voltage. (3.3V)", 62 AVDD (power) "Analog supply voltage. (3.3V)", 63 DVDD (power) "Digital supply voltage. (1.8V) For best performance it is recommended to isolate pins 10 and 39 from all other 1.8V supplies.", 65 EP (power) "Pin 4 and the Thermal Pad located on the bottom of the QFN package is ground for AVDD, DVDD and IOVDD supplies."